# Altium integrated library TI Peripheral Bus Interface Controller.IntLib: 17 symbols (part 2 of 2)
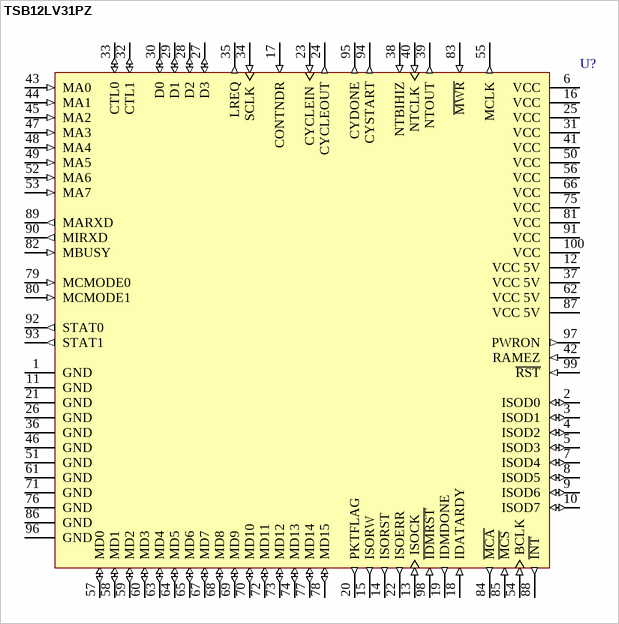
[diagram p6: symbol TSB12LV31PZ]

## TSB12LV31PZ
designator U?
IEEE 1394-1995 General-Purpose Link-Layer Controller; Note: Pin 23 should be tied high if not in use.  Pin 38 and 40 should be grounded and pin 39 should be left open for normal operation; ComponentAvailability: Obsolete; Published: 15-Apr-2002; LatestRevisionDate: 13-Apr-2006; LatestRevisionNote: IPC-7351 Footprint Added.; DatasheetVersion: Sep-1998; PackageVersion: Dec-1996; PackageReference: PZ100; Publisher: Altium Limited; PackageDescription: 100-Pin Thin Quad Flat Pack 0.5 mm Pitch; ComponentLink1Description: Manufacturer Link; ComponentLink1URL: http://www.ti.com/; ComponentLink2Description: Datasheet; ComponentLink2URL: http://www-s.ti.com/sc/ds/tsb12lv31.pdf
footprint PZ100_N (Thin QFP, 100-Leads, Body 14x14mm, Pitch 0.5mm, IPC Medium Density)
footprint PZ100_L (Thin QFP, 100-Leads, Body 14x14mm, Pitch 0.5mm, IPC High Density)
footprint PZ100_M (Thin QFP, 100-Leads, Body 14x14mm, Pitch 0.5mm, IPC Low Density)
3D model TSB12LV31-PZ100 (100-Pin Thin Quad Flat Pack 0.5 mm Pitch)
pins: 1 GND (power), 2 ISOD0 (io), 3 ISOD1 (io), 4 ISOD2 (io), 5 ISOD3 (io), 6 VCC (power), 7 ISOD4 (io), 8 ISOD5 (io), 9 ISOD6 (io), 10 ISOD7 (io), 11 GND (power), 12 VCC 5V (power), 13 ISOCK (in), 14 ISORST (out), 15 ISORW (out), 16 VCC (power), 17 CONTNDR (in), 18 IDATARDY (in), 19 IDMDONE (out), 20 PKTFLAG (out), 21 GND (power), 22 ISOERR (out), 23 CYCLEIN (in), 24 CYCLEOUT (out), 25 VCC (power), 26 GND (power), 27 D3 (io), 28 D2 (io), 29 D1 (io), 30 D0 (io), 31 VCC (power), 32 CTL1 (io), 33 CTL0 (io), 34 SCLK (in), 35 LREQ (out), 36 GND (power), 37 VCC 5V (power), 38 NTBIHIZ (in), 39 NTOUT (out), 40 NTCLK (in), 41 VCC (power), 42 RAMEZ (in), 43 MA0 (in), 44 MA1 (in), 45 MA2 (in), 46 GND (power), 47 MA3 (in), 48 MA4 (in), 49 MA5 (in), 50 VCC (power), 51 GND (power), 52 MA6 (in), 53 MA7 (in), 54 BCLK (in), 55 MCLK (out), 56 VCC (power), 57 MD0 (io), 58 MD1 (io), 59 MD2 (io), 60 MD3 (io), 61 GND (power), 62 VCC 5V (power), 63 MD4 (io), 64 MD5 (io), 65 MD6 (io), 66 VCC (power), 67 MD7 (io), 68 MD8 (io), 69 MD9 (io), 70 MD10 (io), 71 GND (power), 72 MD11 (io), 73 MD12 (io), 74 MD13 (io), 75 VCC (power), 76 GND (power), 77 MD14 (io), 78 MD15 (io), 79 MCMODE0 (in), 80 MCMODE1 (in), 81 VCC (power), 82 MBUSY (in), 83 ~{MWR} (in), 84 ~{MCA} (out), 85 ~{MCS} (in), 86 GND (power), 87 VCC 5V (power), 88 ~{INT} (out), 89 MARXD (out), 90 MIRXD (out), 91 VCC (power), 92 STAT0 (out), 93 STAT1 (out), 94 CYSTART (out), 95 CYDONE (out), 96 GND (power), 97 PWRON (out), 98 ~{IDMRST} (in), 99 ~{RST} (in), 100 VCC (power)